# Altium schematic symbol library MB0028A.01.A.1.SchLib: 1 symbol
Pins are listed as number, name and electrical type; pins without a type are passive.

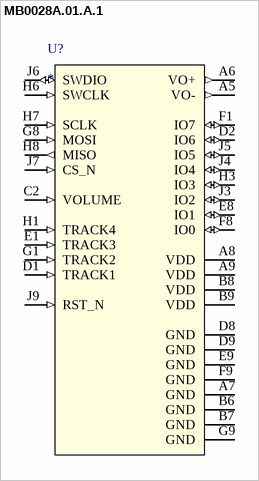
[diagram p0: symbol MB0028A.01.A.1]

## MB0028A.01.A.1
designator U?
pins: A5 VO- (out), A6 VO+ (out), A7 GND (power), A8 VDD (power), A9 VDD (power), B6 GND (power), B7 GND (power), B8 VDD (power), B9 VDD (power), C2 VOLUME (in), D1 TRACK1 (in), D2 IO6 (io), D8 GND (power), D9 GND (power), E1 TRACK3 (in), E8 IO1 (io), E9 GND (power), F1 IO7 (io), F8 IO0 (io), F9 GND (power), G1 TRACK2 (in), G8 MOSI (in), G9 GND (power), H1 TRACK4 (in), H3 IO3 (io), H6 SWCLK (in), H7 SCLK (in), H8 MISO (out), J3 IO2 (io), J4 IO4 (io), J5 IO5 (io), J6 SWDIO (io), J7 CS_N (in), J9 RST_N (in)